# EAGLE library part PINHEAD_PINHD-2X5 (library Arduino_Wifi_shield_v018_tG)
PIN HEADER
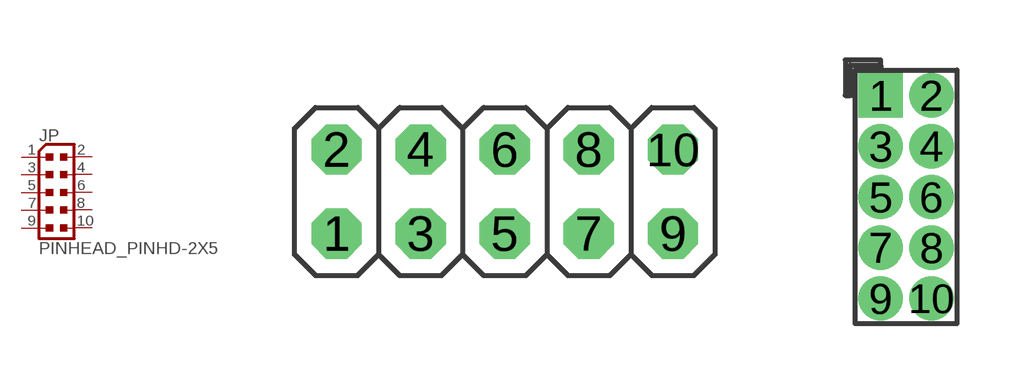
[diagram p0: symbol with the pads of PINHEAD_2X05; footprints PINHEAD_2X05, PINHEAD_2X05_127]

Designator prefix JP

## PINHEAD_PINHD-2X5  [PINHEAD_2X05]
1  1  pas
2  2  pas
3  3  pas
4  4  pas
5  5  pas
6  6  pas
7  7  pas
8  8  pas
9  9  pas
10  10  pas

## PINHEAD_PINHD-2X5PASSO127  [PINHEAD_2X05_127]
Pads as for PINHEAD_2X05

## Footprint PINHEAD_2X05 (pad centres in mm)
PIN HEADER
drill 1.016 octagon: 1 -5.08,-1.27; 2 -5.08,1.27; 3 -2.54,-1.27; 4 -2.54,1.27; 5 0,-1.27; 6 0,1.27; 7 2.54,-1.27; 8 2.54,1.27; 9 5.08,-1.27; 10 5.08,1.27

## Footprint PINHEAD_2X05_127 (pad centres in mm)
drill 0.6 pad 1.016 square: 1 -0.635,2.54
drill 0.6 pad 1.016: 2 0.635,2.54; 3 -0.635,1.27; 4 0.635,1.27; 5 -0.635,0; 6 0.635,0; 7 -0.635,-1.27; 8 0.635,-1.27; 9 -0.635,-2.54; 10 0.635,-2.54